# EAGLE library part VCNL4020 (library GRITSBot)
Vishay Semiconductor Opto Division VCNL4020-GS08 IR Proximity Sensor and ambient light sensor (package: 10LLP) Purchase at: http://www.digikey.com/product-detail/en/VCNL4020-GS08/VCNL4020-GS08CT-ND/2813365 Datasheet: http://www.vishay.com/docs/83476/vcnl4020.pdf
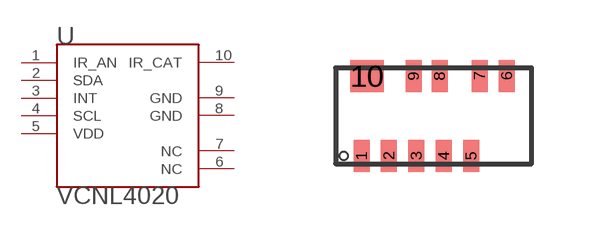
[diagram p22: symbol with the pads of VCNL4020; footprint VCNL4020]

Designator prefix -

## VCNL4020  [VCNL4020]
1  IR_AN
2  SDA
3  INT
4  SCL
5  VDD
6  NC
7  NC
8  GND
9  GND
10  IR_CAT

## Footprint VCNL4020 (pad centres in mm)
smd 0.4 x 0.8: 1 -1.8,-1; 2 -1.115,-1; 3 -0.43,-1; 4 0.255,-1; 5 0.94,-1; 6 1.83,1; 7 1.15,1; 8 0.15,1; 9 -0.5,1
smd 0.83 x 0.8: 10 -1.665,1